# EAGLE library part 74LVC2T45GS,115 (library 74LVC2T45GS_115)
74LVC2T45; 74LVCH2T45 - Dual supply translating transceiver; 3-state@en-us Source: Datasheet <https://componentsearchengine.com/Datasheets/1/74LVC2T45GS,115.pdf>
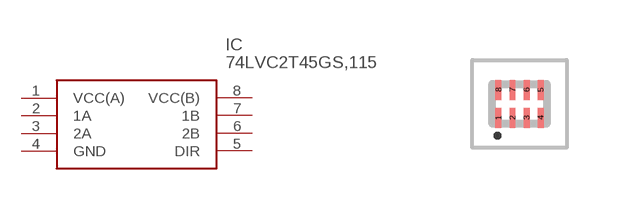
[diagram p0: symbol with the pads of 74AXP2T3407GSX; footprint 74AXP2T3407GSX]

Designator prefix IC

## 74LVC2T45GS,115 (Description: 74LVC2T45; 74LVCH2T45 - Dual supply translating transceiver; 3-state@en-us; Height: 0.35mm; Manufacturer_Name: Nexperia; Manufacturer_Part_Number: 74LVC2T45GS,115; Mouser_Part_Number: 771-74LVC2T45GS115; Mouser_Price-Stock: https://www.mouser.com/Search/Refine.aspx?Keyword=771-74LVC2T45GS115)  [74AXP2T3407GSX]
1  VCC(A)
2  1A
3  2A
4  GND
5  DIR
6  2B
7  1B
8  VCC(B)

## Footprint 74AXP2T3407GSX (pad centres in mm)
XSON8 (SOT1203)
smd 0.15 x 0.5: 1 -0.525,-0.35; 2 -0.175,-0.35; 3 0.175,-0.35; 4 0.525,-0.35; 5 0.525,0.35; 6 0.175,0.35; 7 -0.175,0.35; 8 -0.525,0.35